# Altium integrated library CAPACITOR.IntLib: 26 symbols
Pins are listed as number, name and electrical type; pins without a type are passive.

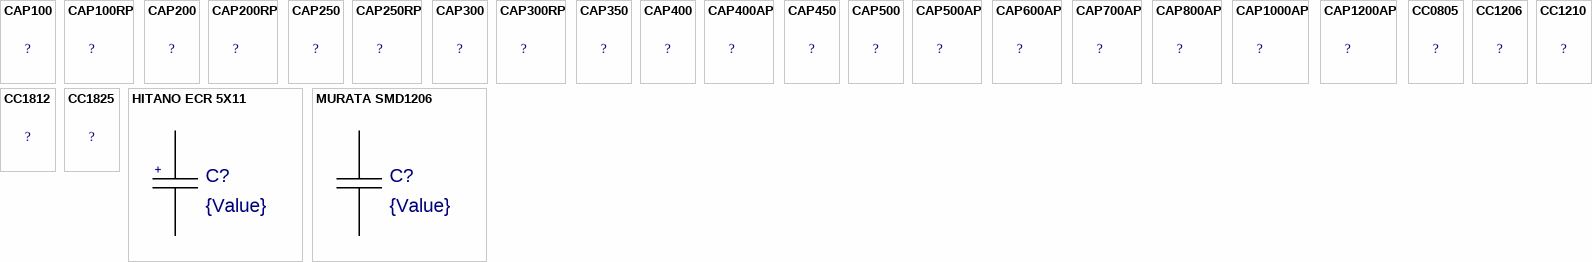
[diagram p0: symbols CAP100 to MURATA SMD1206]

## CAP100
designator ?  (value not drawn)
Value: *
footprint CAP100_CAP100(Primary)
pins: A hidden, B hidden

## CAP100RP
designator ?  (value not drawn)
Value: *
footprint CAP100RP_CAP100RP(Primary)
pins: MINUS hidden, PLUS hidden

## CAP200
designator ?  (value not drawn)
Value: *
footprint CAP200_CAP200(Primary)
pins: A hidden, B hidden

## CAP200RP
designator ?  (value not drawn)
Value: *
footprint CAP200RP_CAP200RP(Primary)
pins: MINUS hidden, PLUS hidden

## CAP250
designator ?  (value not drawn)
Value: *
footprint CAP250_CAP250(Primary)
pins: A hidden, B hidden

## CAP250RP
designator ?  (value not drawn)
Value: *
footprint CAP250RP_CAP250RP(Primary)
pins: MINUS hidden, PLUS hidden

## CAP300
designator ?  (value not drawn)
Value: *
footprint CAP300_CAP300(Primary)
pins: A hidden, B hidden

## CAP300RP
designator ?  (value not drawn)
Value: *
footprint CAP300RP_CAP300RP(Primary)
pins: MINUS hidden, PLUS hidden

## CAP350
designator ?  (value not drawn)
Value: *
footprint CAP350_CAP350(Primary)
pins: A hidden, B hidden

## CAP400
designator ?  (value not drawn)
Value: *
footprint CAP400_CAP400(Primary)
pins: A hidden, B hidden

## CAP400AP
designator ?  (value not drawn)
Value: *
footprint CAP400AP_CAP400AP(Primary)
pins: MINUS hidden, PLUS hidden

## CAP450
designator ?  (value not drawn)
Value: *
footprint CAP450_CAP450(Primary)
pins: A hidden, B hidden

## CAP500
designator ?  (value not drawn)
Value: *
footprint CAP500_CAP500(Primary)
pins: A hidden, B hidden

## CAP500AP
designator ?  (value not drawn)
Value: *
footprint CAP500AP_CAP500AP(Primary)
pins: MINUS hidden, PLUS hidden

## CAP600AP
designator ?  (value not drawn)
Value: *
footprint CAP600AP_CAP600AP(Primary)
pins: MINUS hidden, PLUS hidden

## CAP700AP
designator ?  (value not drawn)
Value: *
footprint CAP700AP_CAP700AP(Primary)
pins: MINUS hidden, PLUS hidden

## CAP800AP
designator ?  (value not drawn)
Value: *
footprint CAP800AP_CAP800AP(Primary)
pins: MINUS hidden, PLUS hidden

## CAP1000AP
designator ?  (value not drawn)
Value: *
footprint CAP1000AP_CAP1000AP(Primary)
pins: MINUS hidden, PLUS hidden

## CAP1200AP
designator ?  (value not drawn)
Value: *
footprint CAP1200AP_CAP1200AP(Primary)
pins: MINUS hidden, PLUS hidden

## CC0805
designator ?  (value not drawn)
Value: *
footprint CC0805_CC0805(Primary)
pins: A hidden, B hidden

## CC1206
designator ?  (value not drawn)
Value: *
footprint CC1206_CC1206(Primary)
pins: A hidden, B hidden

## CC1210
designator ?  (value not drawn)
Value: *
footprint CC1210_CC1210(Primary)
pins: A hidden, B hidden

## CC1812
designator ?  (value not drawn)
Value: *
footprint CC1812_CC1812(Primary)
pins: A hidden, B hidden

## CC1825
designator ?  (value not drawn)
Value: *
footprint CC1825_CC1825(Primary)
pins: A hidden, B hidden

## HITANO ECR 5X11
designator C?  value {Value}  (hidden comment: HITANO ECR 5X11)
footprint CAP100RP
pins: 1 A1, 2 A2
text: +

## MURATA SMD1206
designator C?  value {Value}  (hidden comment: MURATA SMD1206)
footprint CC1206
pins: 1 A1, 2 A2